# Altium footprint library Displays.PcbLib: 1 footprints
Each footprint in its own frame and in the unit in brackets; x right, y up, seen from the top. Pads: shape width x height; smd on the part's side, far side on the other; paste and mask are expansions set on the pad; w line width, h text height; cw(c..) or ccw(c..) is an arc to the next point about the centre after c.
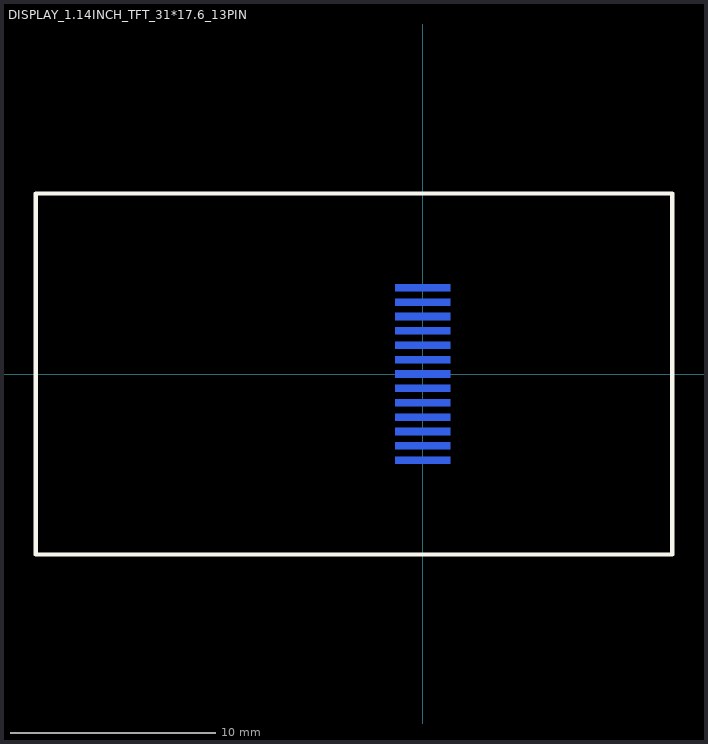
[diagram p0: the footprint, top view; thin cyan lines are the x and y axes]

## DISPLAY_1.14INCH_TFT_31*17.6_13PIN [mm]
pads (13):
  rect 2.7x0.35 smd far side: 1(0,4.2) 2(0,3.5) 3(0,2.8) 4(0,2.1) 5(0,1.4) 6(0,0.7) 7(0,0) 8(0,-0.7) 9(0,-1.4) 10(0,-2.1) 11(0,-2.8) 12(0,-3.5) 13(0,-4.2)
Top Overlay:
  lines w0.203: -18.85,-8.8 12.15,-8.8 12.15,8.8 -18.85,8.8 -18.85,-8.8
Bottom Overlay:
  lines w0.203: -0.35,-4.927 -0.35,-6.2 1.65,-6.2 ; -0.35,6.2 1.65,6.2
  text "13" at -0.648,-5.913 h1
  text "1" at -0.948,5.187 h1